# Altium schematic symbol library NC7SZ04P5X.SchLib: 1 symbol
Pins are listed as number, name and electrical type; pins without a type are passive.

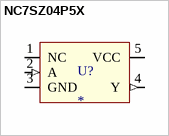
[diagram p0: symbol NC7SZ04P5X]

## NC7SZ04P5X
designator U?
footprint SC-70-5
pins: 1 NC, 2 A (in), 3 GND (power), 4 Y (out), 5 VCC (power)